# EAGLE library part RN4020_BLUETOOTH (library howell)
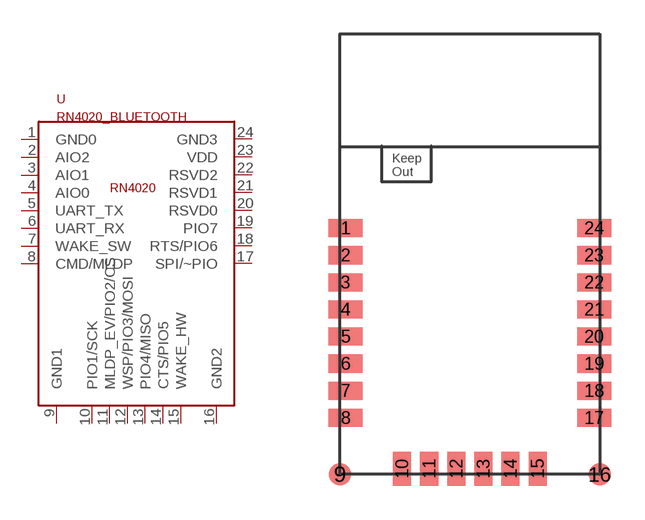
[diagram p5: symbol with the pads of RN4020; footprint RN4020]

Designator prefix -

## RN4020_BLUETOOTH  [RN4020]
1  GND0
2  AIO2
3  AIO1
4  AIO0
5  UART_TX
6  UART_RX
7  WAKE_SW
8  CMD/MLDP
9  GND1
10  PIO1/SCK
11  MLDP_EV/PIO2/CS
12  WSP/PIO3/MOSI
13  PIO4/MISO
14  CTS/PIO5
15  WAKE_HW
16  GND2
17  SPI/~PIO
18  RTS/PIO6
19  PIO7
20  RSVD0
21  RSVD1
22  RSVD2
23  VDD
24  GND3

## Footprint RN4020 (pad centres in mm)
smd 1.5 x 0.8: 1 0.25,10.9; 2 0.25,9.7; 3 0.25,8.5; 4 0.25,7.3; 5 0.25,6.1; 6 0.25,4.9; 7 0.25,3.7; 8 0.25,2.5; 17 11.25,2.5; 18 11.25,3.7; 19 11.25,4.9; 20 11.25,6.1; 21 11.25,7.3; 22 11.25,8.5; 23 11.25,9.7; 24 11.25,10.9
smd 1 x 1: 9 0,0; 16 11.5,0
smd 0.8 x 1.5: 10 2.75,0.25; 11 3.95,0.25; 12 5.15,0.25; 13 6.35,0.25; 14 7.55,0.25; 15 8.75,0.25